# Altium footprint library Lab12.PcbLib: 4 footprints
Each footprint in its own frame and in the unit in brackets; x right, y up, seen from the top. Pads: shape width x height; smd on the part's side, far side on the other; paste and mask are expansions set on the pad; w line width, h text height; cw(c..) or ccw(c..) is an arc to the next point about the centre after c.
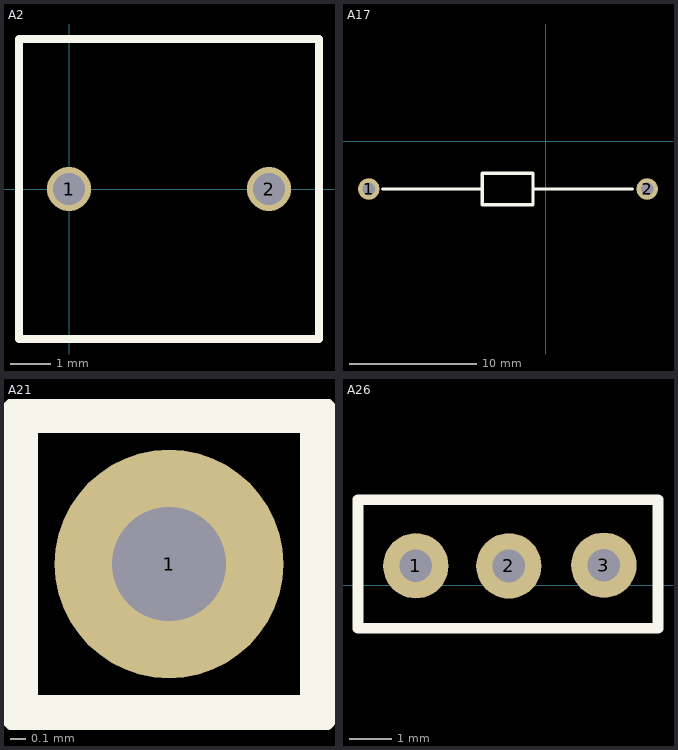
[diagram p0: the footprints below, top view; thin cyan lines are the x and y axes]

## A2 [mm]
height 6
pads (2):
  round 1.1 hole 0.8: 1(0,0) 2(5,0)
Top Overlay:
  lines w0.2: -1.25,-3.75 0,-3.75 1.25,-3.75 5,-3.75 6.25,-3.75 6.25,3.75 5,3.75 0,3.75 -1.25,3.75 -1.25,1.25 -1.25,-0.313 -1.25,-0.937 -1.25,-3.75
3D body "A54.step": height 11, standoff -19.5, extent -1.25,-3.81 6.25,3.69

## A17 [mm]
height 2.9
pads (2):
  round 1.7 hole 1: 1(-13.95,-3.75) 2(8,-3.75)
Top Overlay:
  lines w0.254: -12.85,-3.75 -5,-3.75 ; -1,-3.75 6.85,-3.75 ; -5,-5 -5,-2.5 -1,-2.5 -1,-5 -5,-5
3D body "A46.step": height 2.39, standoff -3.95, extent -13.955,-5.1 7.955,-2.6

## A21 [mil]
pads (1):
  round 60 hole 30: 1(-354.33,157.48)
Top Overlay:
  lines w10: -393.7,118.11 -314.96,118.11 -314.96,196.85 -393.7,196.85 -393.7,118.11

## A26 [mil]
height 590.55
pads (3):
  round 60 hole 30: 1(-301.18,18) 2(-215.76,17.92) 3(-128.46,18.6)
Top Overlay:
  lines w10: -354.33,-39.37 -78.74,-39.37 -78.74,78.74 -354.33,78.74 -354.33,-39.37